# EAGLE library part HOPE-TRANS (library icmi-custom-parts)
HopeRF RFM02 Universal ISM Band FSK Transmitter This is the device for the RFM01 <http://www.hoperf.com/rf_fsk/fsk/19.htm> ISM band transmitter as SMD version (14 pin) as opposed to the throughhole (16 pin).
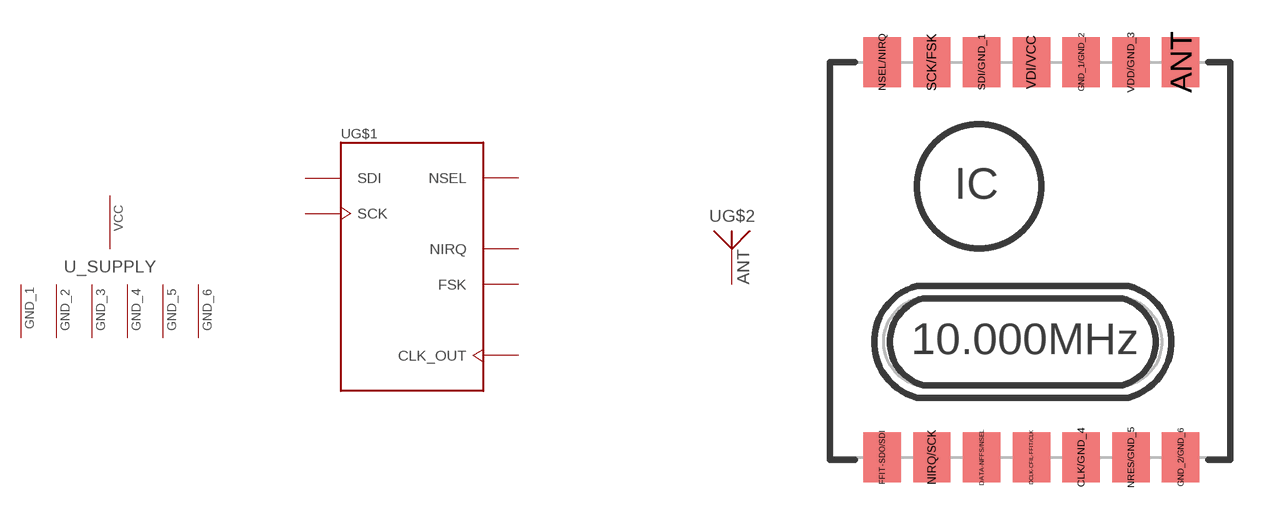
[diagram p1: symbol with the pads of HOPE-RF-14; footprint HOPE-RF-14]

Designator prefix -; gates G$1=RFM02 G$2=ANTENNA _SUPPLY=1PWR_6GND

## HOPE-TRANS-RFM02-SMD  [HOPE-RF-14]
ANT  G$2:ANT  pas
CLK/GND_4  _SUPPLY:GND_4  pwr
DATA-NFFS/NSEL  G$1:NSEL  in
DCLK-CFIL-FFIT/CLK  G$1:CLK_OUT  out
FFIT-SDO/SDI  G$1:SDI  in
GND_1/GND_2  _SUPPLY:GND_2  pwr
GND_2/GND_6  _SUPPLY:GND_6  pwr
NIRQ/SCK  G$1:SCK  in
NRES/GND_5  _SUPPLY:GND_5  pwr
NSEL/NIRQ  G$1:NIRQ  out
SCK/FSK  G$1:FSK  in
SDI/GND_1  _SUPPLY:GND_1  pwr
VDD/GND_3  _SUPPLY:GND_3  pwr
VDI/VCC  _SUPPLY:VCC  pwr

## Footprint HOPE-RF-14 (pad centres in mm)
SMD package for HopeRF FSK 14-pin/pad transmitter/receiver modules This is a SMD footprint for the FSK transmitter/receiver modules manufactured by HopeRF Electronics (www.hoperf.com). It will fit the 14-pin/pad dedicated transmitter and receiver modules RFM01 <http://www.hoperf.com/rf_fsk/fsk/18.htm> and RFM02 <http://www.hoperf.com/rf_fsk/fsk/19.htm>. It is not suitable for the combined transceiver modules as they require 16-pins/pads. The pads names are made up from the combined pin function of both the RFM01 and 02, separated with a forward slash (/). A hyphen denotes separates multiple function of a pin of a single module. Example: the pad named DATA-NFFS/CLK is the DATA/nFFS pin on the RMF01 and the CLK pin on the RFM02
smd 1.5 x 2: ANT 6.1,7.5; CLK/GND_4 2.1,-8.4; DATA-NFFS/NSEL -1.9,-8.4; DCLK-CFIL-FFIT/CLK 0.1,-8.4; FFIT-SDO/SDI -5.9,-8.4; GND_1/GND_2 2.1,7.5; GND_2/GND_6 6.1,-8.4; NIRQ/SCK -3.9,-8.4; NRES/GND_5 4.1,-8.4; NSEL/NIRQ -5.9,7.5; SCK/FSK -3.9,7.5; SDI/GND_1 -1.9,7.5; VDD/GND_3 4.1,7.5; VDI/VCC 0.1,7.5